# EAGLE library part RASPBERRY_PI_B (library GClue)
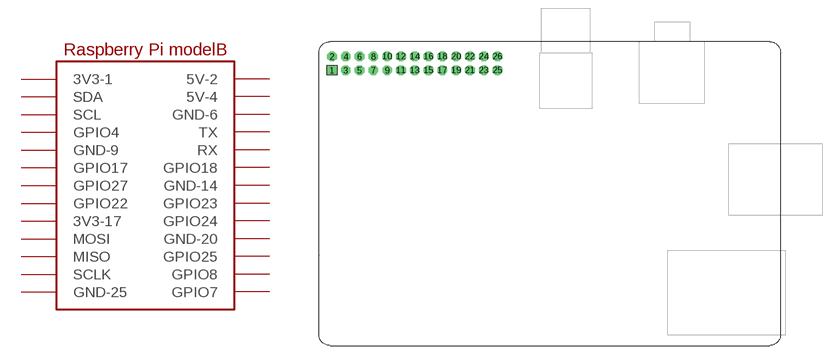
[diagram p16: symbol with the pads of RASPBERRY_PI_B; footprint RASPBERRY_PI_B]

Designator prefix U

## RASPBERRY_PI_B1  [RASPBERRY_PI_B]
1  3V3-1
2  5V-2
3  SDA
4  5V-4
5  SCL
6  GND-6
7  GPIO4
8  TX
9  GND-9
10  RX
11  GPIO17
12  GPIO18
13  GPIO27
14  GND-14
15  GPIO22
16  GPIO23
17  3V3-17
18  GPIO24
19  MOSI
20  GND-20
21  MISO
22  GPIO25
23  SCLK
24  GPIO8
25  GND-25
26  GPIO7

## Footprint RASPBERRY_PI_B (pad centres in mm)
drill 1 pad 1.778 square: 1 2.54,50.8
drill 1 pad 1.778 octagon: 2 2.54,53.34; 3 5.08,50.8; 4 5.08,53.34; 5 7.62,50.8; 6 7.62,53.34; 7 10.16,50.8; 8 10.16,53.34; 9 12.7,50.8; 10 12.7,53.34; 11 15.24,50.8; 12 15.24,53.34; 13 17.78,50.8; 14 17.78,53.34; 15 20.32,50.8; 16 20.32,53.34; 17 22.86,50.8; 18 22.86,53.34; 19 25.4,50.8; 20 25.4,53.34; 21 27.94,50.8; 22 27.94,53.34; 23 30.48,50.8; 24 30.48,53.34; 25 33.02,50.8; 26 33.02,53.34